# Altium footprint library TRANSISTORS.PcbLib: 3 footprints
Each footprint in its own frame and in the unit in brackets; x right, y up, seen from the top. Pads: shape width x height; smd on the part's side, far side on the other; paste and mask are expansions set on the pad; w line width, h text height; cw(c..) or ccw(c..) is an arc to the next point about the centre after c.
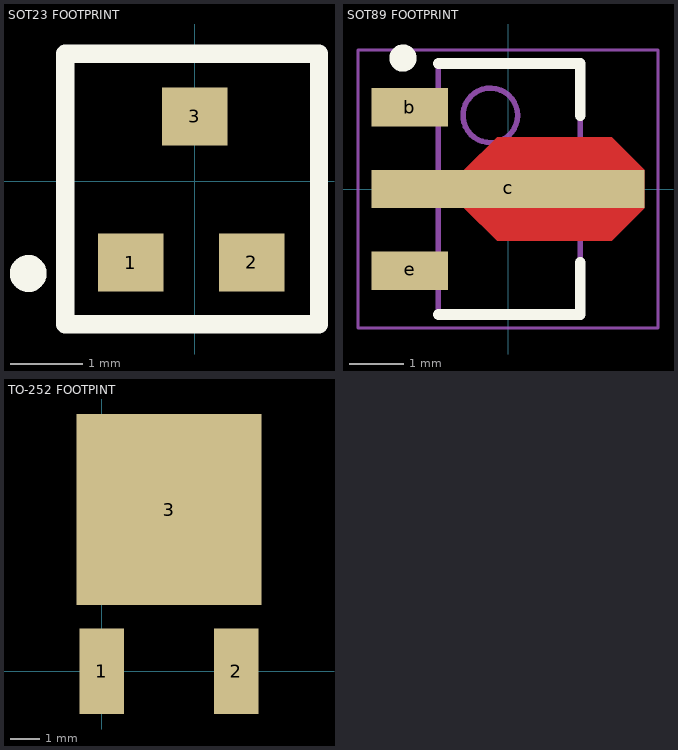
[diagram p0: the footprints below, top view; thin cyan lines are the x and y axes]

## SOT23 FOOTPRINT [mm]
pads (3):
  rect 0.9x0.8 smd: 1(-0.875,-1.121) 2(0.783,-1.118) 3(0,0.889)
Top Overlay:
  circle w0.254: c-2.286,-1.27 r0.127
  lines w0.254: -1.78,-1.966 -1.78,1.748 1.709,1.748 1.709,-1.966 -1.78,-1.966
3D body "DMN2056U-7.STEP": height 1.14, standoff 0, extent -1.45,-1.2 1.45,1.2

## SOT89 FOOTPRINT [mm] "FCX718TA"
height 1.6
pads (3):
  rect 1.4x0.7 smd: b(-1.8,1.5) e(-1.8,-1.5)
  rect 5x0.7 smd: c(0,0)
Top Layer:
  region: -0.8,0.35 -0.2,0.95 1.9,0.95 2.5,0.35 2.5,-0.35 1.9,-0.95 -0.2,-0.95 -0.8,-0.35
Top Overlay:
  circle w0.25: c-1.925,2.4 r0.125
  lines w0.2: -1.275,-2.3 1.325,-2.3 1.325,-1.35 ; -1.275,2.3 1.325,2.3 1.325,1.35
Mechanical 13:
  circle w0.1: c-0.325,1.35 r0.5
  lines w0.1: -1.275,-2.3 -1.275,2.3 1.325,2.3 1.325,-2.3 -1.275,-2.3
Mechanical 15:
  lines w0.05: -2.75,-2.55 -2.75,2.55 2.75,2.55 2.75,-2.55 -2.75,-2.55
  lines w0.1: -0.475,0 0.525,0 ; 0.025,-0.5 0.025,0.5
3D body "TS9011PCY RMG--3DModel-STEP-554148.STEP": height 1.6, standoff 0, extent -2.377,-2.25 1.823,2.25

## TO-252 FOOTPINT [mm]
pads (3):
  rect 1.5x2.9 / inner round 1.524 / far side rect 1.5x2.9 all layers, no hole: 1(0,0) 2(4.572,0)
  rect 6.3x6.5 all layers, no hole: 3(2.286,5.5)
3D body "STD2805T4.stp": height 2.4, standoff -0.23, extent -0.984,-1.159 5.556,8.716